# Altium schematic symbol library RF_Dividers.SchLib: 2 symbols
Pins are listed as number, name and electrical type; pins without a type are passive.

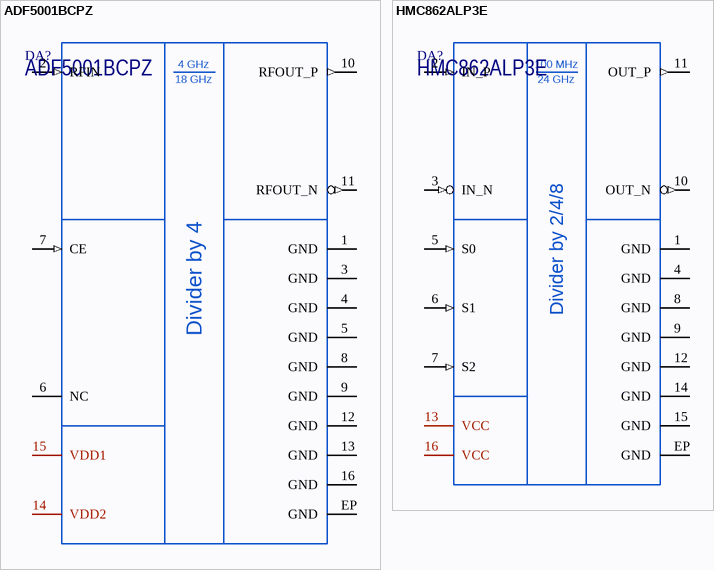
[diagram p0: symbols ADF5001BCPZ to HMC862ALP3E]

## ADF5001BCPZ
designator DA?
4 GHz to 18 GHz, Divide-by-4 Prescaler; Manufacturer: Analog Devices; Marking: Q1S; ItemType: IC; ItemSubType: Divider; Alternative1: ADF5001BCPZ-RL7; Package: LFCSP-16; PartNumber: ADF5001BCPZ; AltManufacturer1: Analog Devices; Mounting: SMD
footprint LFCSP-16(CP-16-18) (QFN, 16-Leads, Body 3x3mm, Pitch 0.50mm, Thermal Pad 1.50x1.50mm. Compliant to JEDEC standards MO-220-WEED-6)
pins: 1 GND, 2 RFIN (in), 3 GND, 4 GND, 5 GND, 6 NC (hiz), 7 CE (in), 8 GND, 9 GND, 10 RFOUT_P (out), 11 RFOUT_N (out), 12 GND, 13 GND, 14 VDD2 (power), 15 VDD1 (power), 16 GND, EP GND
text: 4 GHz; 18 GHz; Divider by 4

## HMC862ALP3E
designator DA?
0.1 GHz to 24 GHz, Low Noise, Programmable Divider; Manufacturer: Analog Devices; Marking: H862; ItemType: IC; Package: HCP-16-1; PartNumber: HMC862ALP3E; ItemSubType: Divider; Mounting: SMD
footprint HCP-16-1 (QFN, 16-Leads, Body 3x3mm, Pitch 0.50mm, Thermal Pad 1.70x1.70mm. Compliant to JEDEC standards MO-220-VEED-4)
pins: 1 GND, 2 IN_P (in), 3 IN_N (in), 4 GND, 5 S0 (in), 6 S1 (in), 7 S2 (in), 8 GND, 9 GND, 10 OUT_N (out), 11 OUT_P (out), 12 GND, 13 VCC (power), 14 GND, 15 GND, 16 VCC (power), EP GND
text: 100 MHz; 24 GHz; Divider by 2/4/8